# Altium footprint library Telemetry_rev3.PcbLib: 18 footprints (part 1 of 2)
Each footprint in its own frame and in the unit in brackets; x right, y up, seen from the top. Pads: shape width x height; smd on the part's side, far side on the other; paste and mask are expansions set on the pad; w line width, h text height; cw(c..) or ccw(c..) is an arc to the next point about the centre after c.
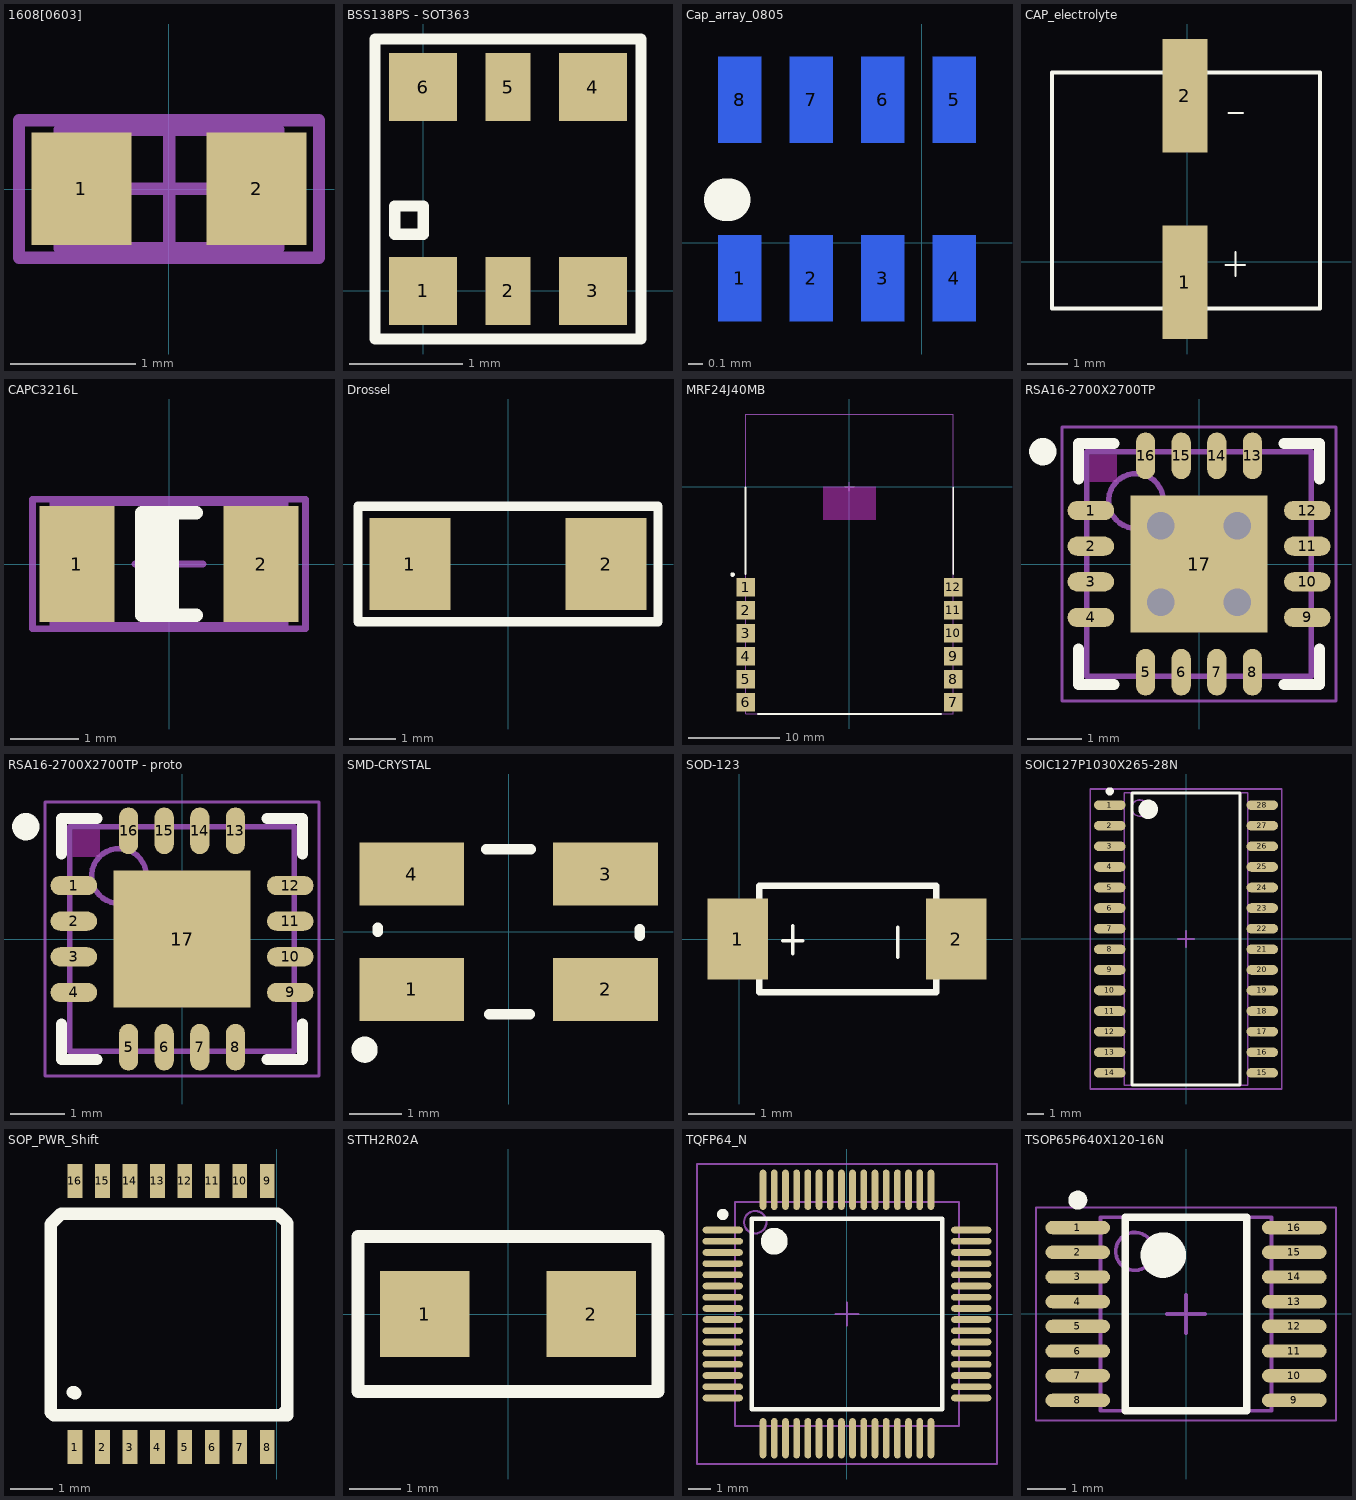
[diagram p0: the footprints below, top view; thin cyan lines are the x and y axes]

## 1608[0603] [mm] "Chip Capacitor, Body 1.6x0.8mm, IPC High Density"
height 1.3
pads (2):
  rect 0.8x0.9 smd: 1(-0.7,0) 2(0.7,0)
Mechanical 13:
  lines w0.1: -0.875,-0.475 -0.875,0.475 0.875,0.475 0.875,-0.475 -0.875,-0.475
Mechanical 15:
  lines w0.1: -0.475,0 0.475,0 ; 0,-0.475 0,0.475 ; -1.2,-0.55 -1.2,0.55 1.2,0.55 1.2,-0.55 -1.2,-0.55
3D body: height 1.3, standoff 0, extent -0.875,-0.475 0.875,0.475

## BSS138PS - SOT363 [mm]
pads (6):
  rect 0.6x0.6 smd: 1(0,0) 3(1.5,0) 4(1.5,1.8) 6(0,1.8)
  rect 0.4x0.6 smd: 2(0.75,0) 5(0.75,1.8)
Top Overlay:
  lines w0.1: -0.425,-0.425 1.925,-0.425 1.925,2.225 -0.425,2.225 -0.425,-0.425 ; -0.25,0.5 0,0.5 0,0.75 -0.25,0.75 -0.25,0.5

## Cap_array_0805 [mm]
pads (8):
  rect 0.3x0.6 smd far side: 1(-1.275,-0.25) 2(-0.775,-0.25) 3(-0.275,-0.25) 4(0.225,-0.25) 5(0.225,1) 6(-0.275,1) 7(-0.775,1) 8(-1.275,1)
Top Overlay:
  lines w0.3: -1.375,0.3 -1.35,0.3

## CAP_electrolyte [mm]
pads (2):
  rect 1.1x2.8 smd: 1(-0.05,-0.5) 2(-0.05,4.1)
Top Overlay:
  lines w0.05: 0.95,-0.075 1.425,-0.075 ; 1.025,3.675 1.375,3.675 ; 1.2,-0.35 1.2,0.25
  lines w0.1: -3.325,-1.15 3.275,-1.15 3.275,4.675 -3.325,4.675 -3.325,-1.125

## CAPC3216L [mm] "Chip Capacitor, Body 3.2x1.6mm, IPC High Density"
height 1.35
pads (2):
  rect 1.1x1.7 smd: 1(-1.35,0) 2(1.35,0)
Top Overlay:
  rectangle: -0.4,-0.75 0.15,0.75
  lines w0.2: 0.4,-0.75 -0.4,-0.75 -0.4,0.75 0.4,0.75
Mechanical 13:
  lines w0.1: -1.7,-0.9 -1.7,0.9 1.7,0.9 1.7,-0.9 -1.7,-0.9
Mechanical 15:
  lines w0.1: -0.5,0 0.5,0 ; 0,-0.5 0,0.5 ; -2,-0.95 -2,0.95 2,0.95 2,-0.95 -2,-0.95
3D body: height 1.35, standoff 0, extent -1.7,-0.9 1.7,0.9

## Drossel [mm]
pads (2):
  rect 1.75x2 smd: 1(-2.125,0) 2(2.125,0)
Top Overlay:
  lines w0.2: -3.25,-1.25 3.25,-1.25 3.25,1.25 -3.25,1.25 -3.25,-0.25 -3.25,-1.25

## MRF24J40MB [mil] "SM Module; 12 Leads; Body 33x22.9x2.5mm (LxWxH), Microchip Recommended"
height 100
pads (12):
  rect 80x80 smd paste-159.45 mask+2: 1(-450,-435) 2(-450,-535) 3(-450,-635) 4(-450,-735) 5(-450,-835) 6(-450,-935) 7(450,-935) 8(450,-835) 9(450,-735) 10(450,-635) 11(450,-535) 12(450,-435)
Top Layer keep-out:
  rectangle: -115,-145 115,0
Top Overlay:
  circle w9.84: c-506.5,-380.75 r4.92
  lines w7.87: -450,-379.13 -450,-3.94 ; -397.64,-985 397.64,-985 ; 450,-379.13 450,-3.94
Mechanical 13:
  lines w3.94: -450,-985 450,-985 450,315 -450,315 -450,-985
Mechanical 15:
  lines w3.94: -19.69,0 19.68,0 ; 0,-19.68 0,19.69
3D body: height 32, standoff 0, extent -449.98,-984.98 449.98,314.98
3D body: height 100, standoff 32, extent -413.37,-972.42 409.43,-0.02

## RSA16-2700X2700TP [mm] "QFN, 16-Leads, Body 4x4mm, Pitch 0.65mm, Thermal Pad 2.7x2.7mm, TI Recommended"
height 1
pads (17):
  oval 0.85x0.35 smd paste-0.025 mask+0.07: 1(-1.975,0.975) 2(-1.975,0.325) 3(-1.975,-0.325) 4(-1.975,-0.975) 9(1.975,-0.975) 10(1.975,-0.325) 11(1.975,0.325) 12(1.975,0.975)
  oval 0.35x0.85 smd paste-0.025 mask+0.07: 5(-0.975,-1.975) 6(-0.325,-1.975) 7(0.325,-1.975) 8(0.975,-1.975) 13(0.975,1.975) 14(0.325,1.975) 15(-0.325,1.975) 16(-0.975,1.975)
  rect 2.5x2.5 smd paste-1.35 mask+0.07: 17(0,0)
via 0.7,-0.7 diameter 1 hole 0.5
via -0.7,0.7 diameter 1 hole 0.5
via -0.7,-0.7 diameter 1 hole 0.5
via 0.7,0.7 diameter 1 hole 0.5
Top Layer keep-out:
  rectangle: -2,1.5 -1.5,2
Top Overlay:
  circle w0.25: c-2.85,2.05 r0.125
  lines w0.2: -2.2,-1.55 -2.2,-2.2 -1.55,-2.2 ; -2.2,1.55 -2.2,2.2 -1.55,2.2 ; 1.55,-2.2 2.2,-2.2 2.2,-1.55 ; 1.55,2.2 2.2,2.2 2.2,1.55
Top Paste:
  region: 0.15,-0.15 0.15,-1.25 1.25,-1.25 1.25,-0.15
  region: -0.15,-0.15 -1.25,-0.15 -1.25,-1.25 -0.15,-1.25
  region: -0.15,0.15 -0.15,1.25 -1.25,1.25 -1.25,0.15
  rectangle: 0.15,0.15 1.25,1.25
Mechanical 13:
  circle w0.1: c-1.15,1.15 r0.5
  lines w0.1: -2.05,-2.05 -2.05,2.05 2.05,2.05 2.05,-2.05 -2.05,-2.05
Mechanical 15:
  lines w0.05: -2.5,-2.5 -2.5,2.5 2.5,2.5 2.5,-2.5 -2.5,-2.5
  lines w0.1: -0.5,0 0.5,0 ; 0,-0.5 0,0.5
3D body: height 1, standoff 0, extent -2.05,-2.05 2.05,2.05

## RSA16-2700X2700TP - proto [mm] "QFN, 16-Leads, Body 4x4mm, Pitch 0.65mm, Thermal Pad 2.7x2.7mm, TI Recommended"
height 1
pads (17):
  oval 0.85x0.35 smd paste-0.025 mask+0.07: 1(-1.975,0.975) 2(-1.975,0.325) 3(-1.975,-0.325) 4(-1.975,-0.975) 9(1.975,-0.975) 10(1.975,-0.325) 11(1.975,0.325) 12(1.975,0.975)
  oval 0.35x0.85 smd paste-0.025 mask+0.07: 5(-0.975,-1.975) 6(-0.325,-1.975) 7(0.325,-1.975) 8(0.975,-1.975) 13(0.975,1.975) 14(0.325,1.975) 15(-0.325,1.975) 16(-0.975,1.975)
  rect 2.5x2.5 smd paste-1.35 mask+0.07: 17(0,0)
Top Layer keep-out:
  rectangle: -2,1.5 -1.5,2
Top Overlay:
  circle w0.25: c-2.85,2.05 r0.125
  lines w0.2: -2.2,-1.55 -2.2,-2.2 -1.55,-2.2 ; -2.2,1.55 -2.2,2.2 -1.55,2.2 ; 1.55,-2.2 2.2,-2.2 2.2,-1.55 ; 1.55,2.2 2.2,2.2 2.2,1.55
Top Paste:
  rectangle: 0.15,0.15 1.25,1.25
  region: -0.15,0.15 -0.15,1.25 -1.25,1.25 -1.25,0.15
  region: -0.15,-0.15 -1.25,-0.15 -1.25,-1.25 -0.15,-1.25
  region: 0.15,-0.15 0.15,-1.25 1.25,-1.25 1.25,-0.15
Mechanical 13:
  circle w0.1: c-1.15,1.15 r0.5
  lines w0.1: -2.05,-2.05 2.05,-2.05 2.05,2.05 -2.05,2.05 -2.05,-2.05
Mechanical 15:
  lines w0.05: -2.5,-2.5 2.5,-2.5 2.5,2.5 -2.5,2.5 -2.5,-2.5
  lines w0.1: -0.5,0 0.5,0 ; 0,-0.5 0,0.5
3D body: height 1, standoff 0, extent -2.05,-2.05 2.05,2.05

## SMD-CRYSTAL [mm] "Quartz Crystal, SM; Body 5.0x 3.2 mm (LxW)"
height 1
pads (4):
  rect 2x1.2 smd: 1(-1.85,-1.1) 2(1.85,-1.1) 3(1.85,1.1) 4(-1.85,1.1)
Top Overlay:
  circle w0.25: c-2.75,-2.25 r0.125
  lines w0.2: -2.5,0 -2.5,0.075 ; -0.425,1.575 0.425,1.575 ; -0.375,-1.575 0.4,-1.575 ; 2.5,-0.075 2.5,0.05
3D body: height 1, standoff 0, extent -2.6,-1.7 2.6,1.7

## SOD-123 [mm]
pads (2):
  rect 0.91x1.22 all layers, no hole: 1(-0.025,0) 2(3.25,0)
Top Overlay:
  lines w0.05: 0.65,-0.025 0.95,-0.025 ; 0.8,-0.225 0.8,0.2 ; 2.375,-0.275 2.375,0.175
  lines w0.1: 0.3,-0.8 0.3,0.8 2.95,0.8 2.95,-0.8 0.3,-0.8

## SOIC127P1030X265-28N [mm] "SOIC, 28-Leads, Body 18,0x7,6mm (max), Pitch 1,27mm, IPC Medium Density"
height 2.65
pads (28):
  oval 1.95x0.6 smd: 1(-4.7,8.255) 2(-4.7,6.985) 3(-4.7,5.715) 4(-4.7,4.445) 5(-4.7,3.175) 6(-4.7,1.905) 7(-4.7,0.635) 8(-4.7,-0.635) 9(-4.7,-1.905) 10(-4.7,-3.175) 11(-4.7,-4.445) 12(-4.7,-5.715) 13(-4.7,-6.985) 14(-4.7,-8.255) 15(4.7,-8.255) 16(4.7,-6.985) 17(4.7,-5.715) 18(4.7,-4.445) 19(4.7,-3.175) 20(4.7,-1.905) 21(4.7,-0.635) 22(4.7,0.635) 23(4.7,1.905) 24(4.7,3.175) 25(4.7,4.445) 26(4.7,5.715) 27(4.7,6.985) 28(4.7,8.255)
Top Overlay:
  circle w0.6: c-2.325,8 r0.3
  circle w0.25: c-4.7,9.105 r0.125
  lines w0.2: -3.325,-9 3.325,-9 3.325,9 -3.325,9 -3.325,-9
Mechanical 13:
  circle w0.1: c-2.85,8.075 r0.5
  lines w0.1: -3.8,-9.025 3.8,-9.025 3.8,9.025 -3.8,9.025 -3.8,-9.025
Mechanical 15:
  lines w0.1: -0.5,0 0.5,0 ; 0,-0.5 0,0.5 ; -5.9,-9.25 5.9,-9.25 5.9,9.25 -5.9,9.25 -5.9,-9.25
3D body: height 2.65, standoff 0.1, extent -3.8,-9.025 3.8,9.025

## SOP_PWR_Shift [mm]
pads (16):
  rect 0.35x0.8 all layers, no hole: 1(-4.775,1.1) 2(-4.125,1.1) 3(-3.475,1.1) 4(-2.825,1.1) 5(-2.175,1.1) 6(-1.525,1.1) 7(-0.875,1.1) 8(-0.225,1.1) 9(-0.225,7.4) 10(-0.875,7.4) 11(-1.525,7.4) 12(-2.175,7.4) 13(-2.825,7.4) 14(-3.475,7.4) 15(-4.125,7.4) 16(-4.775,7.4)
Top Overlay:
  lines w0.3: -4.825,2.4 -4.8,2.4 -4.775,2.375 ; 0.175,1.925 0.25,1.85 ; 0.25,1.85 0.25,6.4 0.025,6.625 -0.25,6.625 -5.1,6.625 -5.35,6.375 -5.35,1.925 -5.275,1.85 0.25,1.85

## STTH2R02A [mm]
pads (2):
  rect 1.73x1.67 smd: 1(-1.605,0) 2(1.605,0)
Top Overlay:
  lines w0.254: -2.9,-1.5 2.9,-1.5 2.9,1.5 -2.9,1.5 -2.9,-1.5
3D body: height 2, standoff 0, extent -2.427,-1.627 2.427,1.627

## TQFP64_N [mm] "Thin QFP, 64-Leads, Body 10x10mm, Pitch 0.5mm, IPC Medium Density"
height 1.2
pads (64):
  oval 1.8x0.3 smd: 1(-5.55,3.75) 2(-5.55,3.25) 3(-5.55,2.75) 4(-5.55,2.25) 5(-5.55,1.75) 6(-5.55,1.25) 7(-5.55,0.75) 8(-5.55,0.25) 9(-5.55,-0.25) 10(-5.55,-0.75) 11(-5.55,-1.25) 12(-5.55,-1.75) 13(-5.55,-2.25) 14(-5.55,-2.75) 15(-5.55,-3.25) 16(-5.55,-3.75) 33(5.55,-3.75) 34(5.55,-3.25) 35(5.55,-2.75) 36(5.55,-2.25) 37(5.55,-1.75) 38(5.55,-1.25) 39(5.55,-0.75) 40(5.55,-0.25) 41(5.55,0.25) 42(5.55,0.75) 43(5.55,1.25) 44(5.55,1.75) 45(5.55,2.25) 46(5.55,2.75) 47(5.55,3.25) 48(5.55,3.75)
  oval 0.3x1.8 smd: 17(-3.75,-5.55) 18(-3.25,-5.55) 19(-2.75,-5.55) 20(-2.25,-5.55) 21(-1.75,-5.55) 22(-1.25,-5.55) 23(-0.75,-5.55) 24(-0.25,-5.55) 25(0.25,-5.55) 26(0.75,-5.55) 27(1.25,-5.55) 28(1.75,-5.55) 29(2.25,-5.55) 30(2.75,-5.55) 31(3.25,-5.55) 32(3.75,-5.55) 49(3.75,5.55) 50(3.25,5.55) 51(2.75,5.55) 52(2.25,5.55) 53(1.75,5.55) 54(1.25,5.55) 55(0.75,5.55) 56(0.25,5.55) 57(-0.25,5.55) 58(-0.75,5.55) 59(-1.25,5.55) 60(-1.75,5.55) 61(-2.25,5.55) 62(-2.75,5.55) 63(-3.25,5.55) 64(-3.75,5.55)
Top Overlay:
  circle w0.6: c-3.25,3.25 r0.3
  circle w0.25: c-5.55,4.45 r0.125
  lines w0.2: -4.25,-4.25 4.25,-4.25 4.25,4.25 -4.25,4.25 -4.25,-4.25
Mechanical 13:
  circle w0.1: c-4.1,4.1 r0.5
  lines w0.1: -5,-5 5,-5 5,5 -5,5 -5,-5
Mechanical 15:
  lines w0.1: -0.5,0 0.5,0 ; 0,-0.5 0,0.5 ; -6.7,-6.7 6.7,-6.7 6.7,6.7 -6.7,6.7 -6.7,-6.7
3D body: height 1.2, standoff 0, extent -5,-5 5,5

## TSOP65P640X120-16N [mm] "TSOP, 16-Leads, Body 5,00x4,40mm, Pitch 0,65mm, IPC Medium Density"
height 1.2
pads (16):
  oval 1.7x0.35 smd: 1(-2.85,2.275) 2(-2.85,1.625) 3(-2.85,0.975) 4(-2.85,0.325) 5(-2.85,-0.325) 6(-2.85,-0.975) 7(-2.85,-1.625) 8(-2.85,-2.275) 9(2.85,-2.275) 10(2.85,-1.625) 11(2.85,-0.975) 12(2.85,-0.325) 13(2.85,0.325) 14(2.85,0.975) 15(2.85,1.625) 16(2.85,2.275)
Top Overlay:
  circle w0.6: c-0.6,1.55 r0.3
  circle w0.25: c-2.85,3 r0.125
  lines w0.2: -1.6,-2.55 1.6,-2.55 1.6,2.55 -1.6,2.55 -1.6,-2.55
Mechanical 13:
  circle w0.1: c-1.35,1.65 r0.5
  lines w0.1: -2.25,-2.55 2.25,-2.55 2.25,2.55 -2.25,2.55 -2.25,-2.55
Mechanical 15:
  lines w0.05: -3.95,-2.8 3.95,-2.8 3.95,2.8 -3.95,2.8 -3.95,-2.8
  lines w0.1: -0.5,0 0.5,0 ; 0,-0.5 0,0.5
3D body: height 1.2, standoff 0.1, extent -2.25,-2.55 2.25,2.55